# Altium integrated library IRF9530NS.IntLib: 1 symbol
Pins are listed as number, name and electrical type; pins without a type are passive.

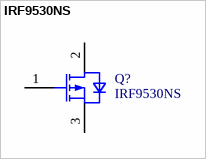
[diagram p0: symbol IRF9530NS]

## IRF9530NS
designator Q?
OptiMOS - P2 Power-Transistor, P-channel-Enhancement mode, VDS -30V; Manufacturer: Infineon Technologies; Manufacturer Order NumberManufacturer Order Number: IRF9530NS; PackageReference: PG-TO263-3-901
footprint TO254P1528X508-4_3N-V1 (TO,2.54mm pitch;3 pin,15.28mm L X 9.00mm W X 5.08mm H body)
pins: 1 GATE, 2 DRAIN, 3 SOURCE